# Altium schematic symbol library Schlib1.SchLib: 2 symbols
Pins are listed as number, name and electrical type; pins without a type are passive.

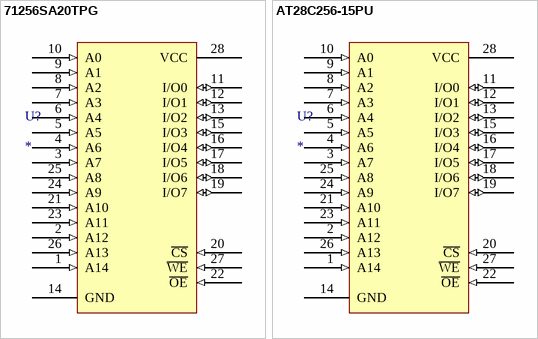
[diagram p0: symbols 71256SA20TPG to AT28C256-15PU]

## 71256SA20TPG
designator U?
footprint JT028 (DIP; 28 Leads; Row Spacing 7.62 mm; Pitch 2.54 mm)
pins: 1 A14 (in), 2 A12 (in), 3 A7 (in), 4 A6 (in), 5 A5 (in), 6 A4 (in), 7 A3 (in), 8 A2 (in), 9 A1 (in), 10 A0 (in), 11 I/O0 (io), 12 I/O1 (io), 13 I/O2 (io), 14 GND (power), 15 I/O3 (io), 16 I/O4 (io), 17 I/O5 (io), 18 I/O6 (io), 19 I/O7 (io), 20 ~{CS} (in), 21 A10 (in), 22 ~{OE} (in), 23 A11 (in), 24 A9 (in), 25 A8 (in), 26 A13 (in), 27 ~{WE} (in), 28 VCC (power)

## AT28C256-15PU
designator U?
footprint J028 (DIP; 28 Leads; Row Spacing 15.24 mm; Pitch 2.54 mm)
pins: 1 A14 (in), 2 A12 (in), 3 A7 (in), 4 A6 (in), 5 A5 (in), 6 A4 (in), 7 A3 (in), 8 A2 (in), 9 A1 (in), 10 A0 (in), 11 I/O0 (io), 12 I/O1 (io), 13 I/O2 (io), 14 GND (power), 15 I/O3 (io), 16 I/O4 (io), 17 I/O5 (io), 18 I/O6 (io), 19 I/O7 (io), 20 ~{CS} (in), 21 A10 (in), 22 ~{OE} (in), 23 A11 (in), 24 A9 (in), 25 A8 (in), 26 A13 (in), 27 ~{WE} (in), 28 VCC (power)